# Altium footprint library DHT11.PcbLib: 2 footprints
Each footprint in its own frame and in the unit in brackets; x right, y up, seen from the top. Pads: shape width x height; smd on the part's side, far side on the other; paste and mask are expansions set on the pad; w line width, h text height; cw(c..) or ccw(c..) is an arc to the next point about the centre after c.
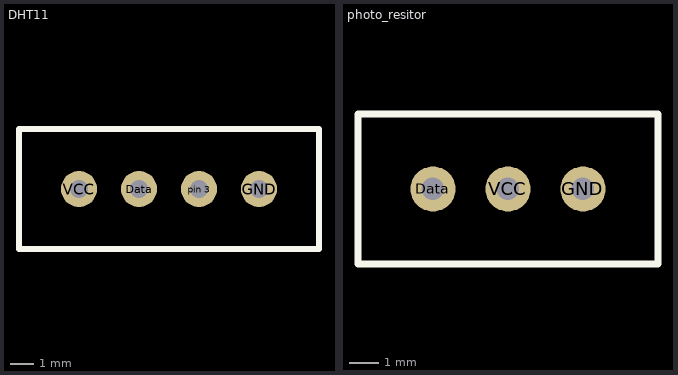
[diagram p0: the footprints below, top view; thin cyan lines are the x and y axes]

## DHT11 [mil] "humidity & temperature sensor"
pads (4):
  round 60 hole 30: Data(-49150,-49000) GND(-48950,-49000) "pin 3"(-49050,-49000) VCC(-49250,-49000)
Top Overlay:
  lines w9.84: -49350,-49100 -48850,-49100 -48850,-48900 -49350,-48900 -49350,-49100

## photo_resitor [mil] "photo resistance with resistor"
pads (3):
  round 60 hole 30: Data(-48750,-48500) GND(-48550,-48500) VCC(-48650,-48500)
Top Overlay:
  lines w9.84: -48850,-48600 -48450,-48600 -48450,-48400 -48850,-48400 -48850,-48600